# Altium schematic symbol library TRANSISTOR.SchLib: 4 symbols
Pins are listed as number, name and electrical type; pins without a type are passive.

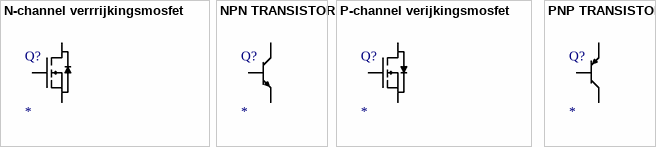
[diagram p0: symbols N-channel verrrijkingsmosfet to PNP TRANSISTOR]

## N-channel verrrijkingsmosfet
designator Q?
type: *
footprint SOT23 footprint transistor
pins: 1 G, 2 D, 3 S

## NPN TRANSISTOR
designator Q?
type: *
pins: 1 B, 2 E, 3 C

## P-channel verijkingsmosfet
designator Q?
type: *
footprint SOT23 footprint transistor
pins: 1 G, 2 S, 3 D

## PNP TRANSISTOR
designator Q?
value: *
footprint SOT23 FOOTPRINT
footprint SOT89 FOOTPRINT (FCX718TA)
footprint TO-252 FOOTPINT
pins: 1 B, 2 E, 3 C